# Altium footprint library 1206_MELF.PcbLib: 1 footprints
Each footprint in its own frame and in the unit in brackets; x right, y up, seen from the top. Pads: shape width x height; smd on the part's side, far side on the other; paste and mask are expansions set on the pad; w line width, h text height; cw(c..) or ccw(c..) is an arc to the next point about the centre after c.
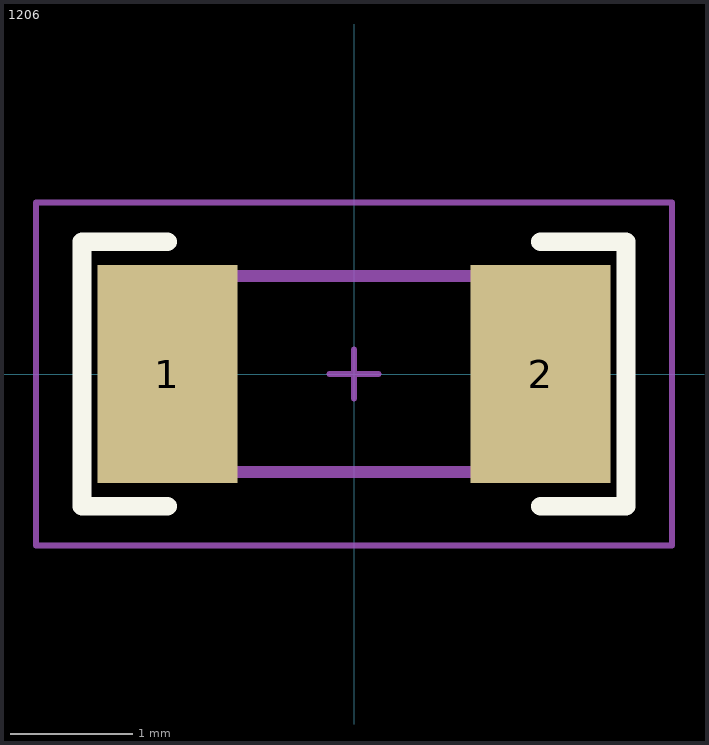
[diagram p0: the footprint, top view; thin cyan lines are the x and y axes]

## 1206 [mil]
pads (2):
  rect 45x70 smd: 1(-60,0) 2(60,0)
Top Overlay:
  lines w6: -60,-42.5 -87.5,-42.5 -87.5,42.5 -60,42.5 ; 60,-42.5 87.5,-42.5 87.5,42.5 60,42.5
Mechanical 13:
  lines w3.94: -60,-31.5 -60,31.5 ; -60,-31.5 59.06,-31.5 ; -60,-31.5 -70.87,-31.5 -70.87,31.5 -60,31.5 ; -60,31.5 59.06,31.5 ; 59.06,-31.5 59.06,31.5 ; 59.06,-31.5 70.87,-31.5 70.87,31.5 59.06,31.5
Mechanical 15:
  lines w1.97: -7.87,0 7.87,0 ; 0,-7.87 0,7.87 ; -102.36,-55.12 -102.36,55.12 102.36,55.12 102.36,-55.12 -102.36,-55.12
3D body: height 0, standoff 0, extent -72.83,-33.46 72.83,33.46
3D body: height 0, standoff 0, extent 59.08,-31.48 70.85,31.48
3D body: height 0, standoff 0, extent -70.85,-31.48 -60.02,31.48